# Altium footprint library PDU-UV17.PcbLib: 41 footprints (part 2 of 3)
Each footprint in its own frame and in the unit in brackets; x right, y up, seen from the top. Pads: shape width x height; smd on the part's side, far side on the other; paste and mask are expansions set on the pad; w line width, h text height; cw(c..) or ccw(c..) is an arc to the next point about the centre after c.
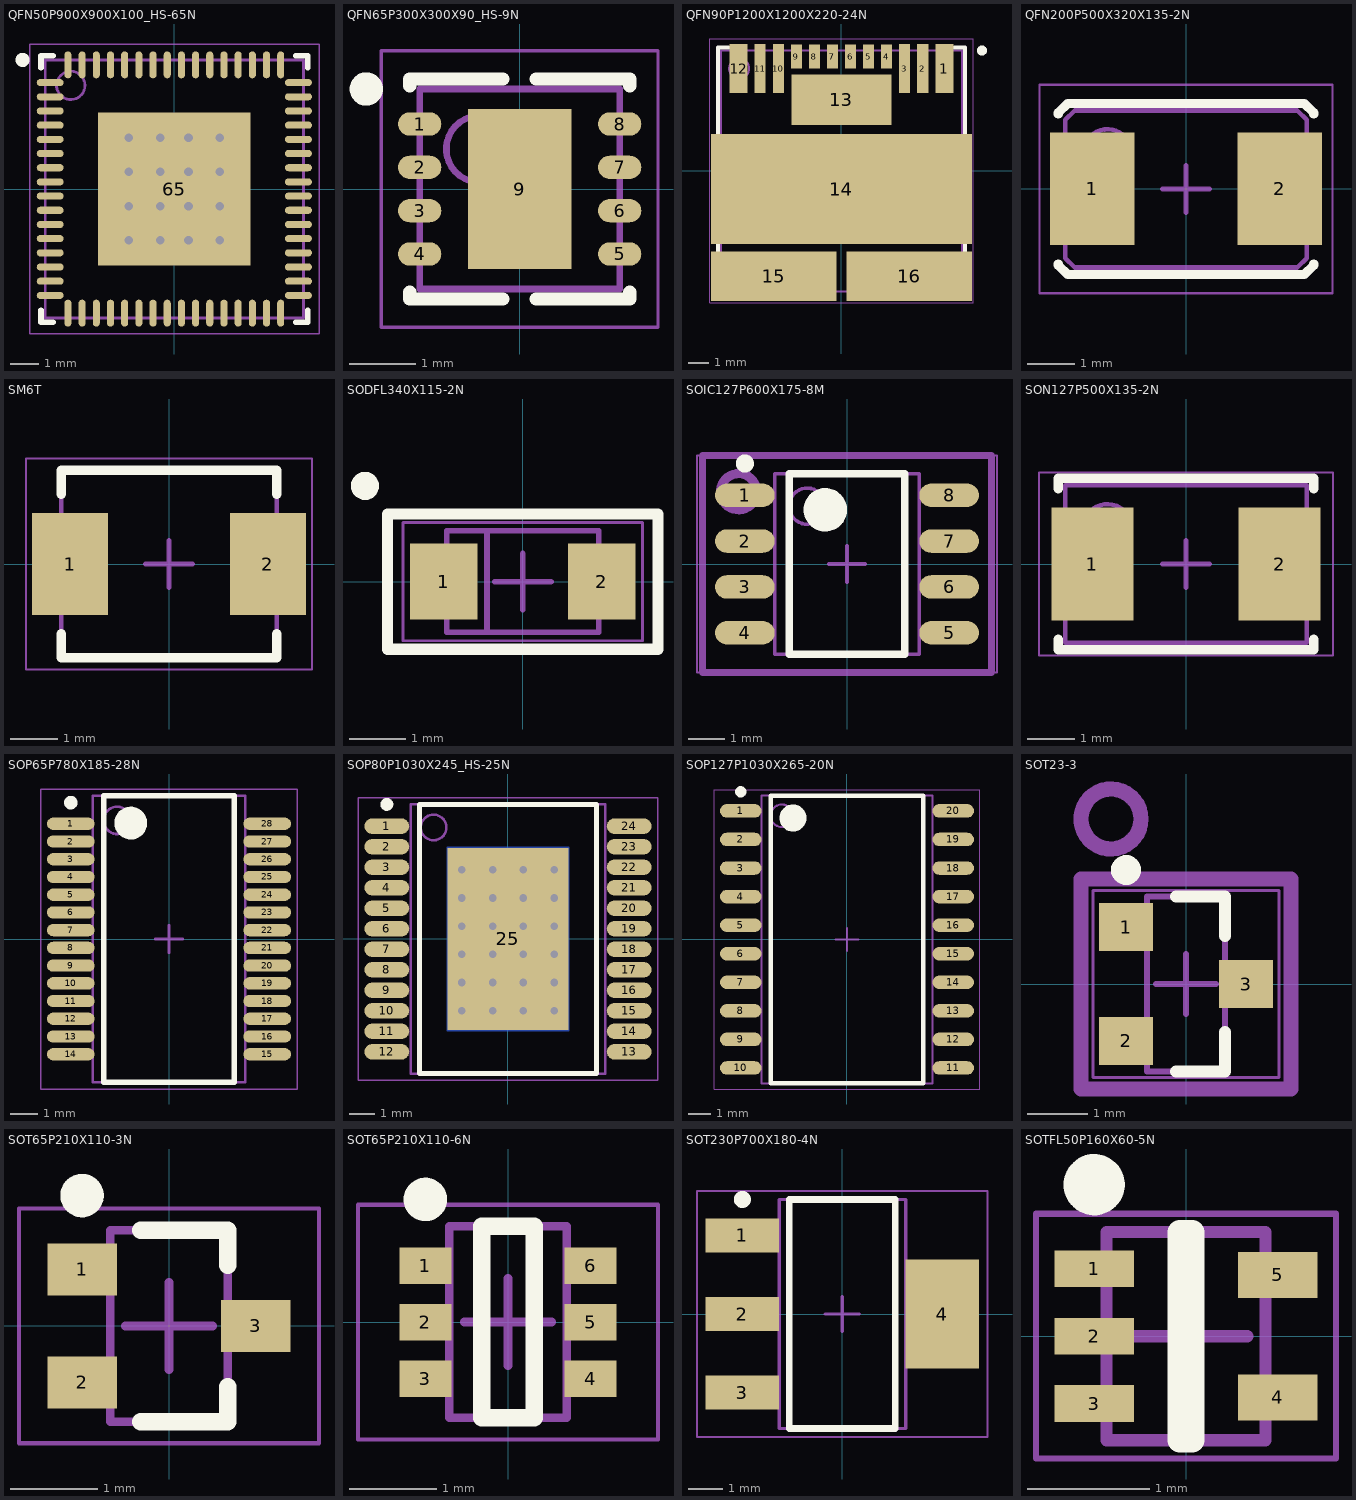
[diagram p1: the footprints below, top view; thin cyan lines are the x and y axes]

## QFN50P900X900X100_HS-65N [mm] "QFN, 64-Leads, Body 9.00x9.00mm, Pitch 0.50mm, Thermal Pad 5.38x5.38mm, IPC Medium Density"
height 1
pads (65):
  oval 0.95x0.25 smd: 1(-4.375,3.75) 2(-4.375,3.25) 3(-4.375,2.75) 4(-4.375,2.25) 5(-4.375,1.75) 6(-4.375,1.25) 7(-4.375,0.75) 8(-4.375,0.25) 9(-4.375,-0.25) 10(-4.375,-0.75) 11(-4.375,-1.25) 12(-4.375,-1.75) 13(-4.375,-2.25) 14(-4.375,-2.75) 15(-4.375,-3.25) 16(-4.375,-3.75) 33(4.375,-3.75) 34(4.375,-3.25) 35(4.375,-2.75) 36(4.375,-2.25) 37(4.375,-1.75) 38(4.375,-1.25) 39(4.375,-0.75) 40(4.375,-0.25) 41(4.375,0.25) 42(4.375,0.75) 43(4.375,1.25) 44(4.375,1.75) 45(4.375,2.25) 46(4.375,2.75) 47(4.375,3.25) 48(4.375,3.75)
  oval 0.25x0.95 smd: 17(-3.75,-4.375) 18(-3.25,-4.375) 19(-2.75,-4.375) 20(-2.25,-4.375) 21(-1.75,-4.375) 22(-1.25,-4.375) 23(-0.75,-4.375) 24(-0.25,-4.375) 25(0.25,-4.375) 26(0.75,-4.375) 27(1.25,-4.375) 28(1.75,-4.375) 29(2.25,-4.375) 30(2.75,-4.375) 31(3.25,-4.375) 32(3.75,-4.375) 49(3.75,4.375) 50(3.25,4.375) 51(2.75,4.375) 52(2.25,4.375) 53(1.75,4.375) 54(1.25,4.375) 55(0.75,4.375) 56(0.25,4.375) 57(-0.25,4.375) 58(-0.75,4.375) 59(-1.25,4.375) 60(-1.75,4.375) 61(-2.25,4.375) 62(-2.75,4.375) 63(-3.25,4.375) 64(-3.75,4.375)
  rect 5.38x5.38 smd: 65(0,0)
via -1.6,1.8 diameter 0.55 hole 0.3
via -0.5,1.8 diameter 0.55 hole 0.3
via 0.5,1.8 diameter 0.55 hole 0.3
via 1.6,1.8 diameter 0.55 hole 0.3
via 1.6,-1.8 diameter 0.55 hole 0.3
via 0.5,-1.8 diameter 0.55 hole 0.3
via -0.5,-1.8 diameter 0.55 hole 0.3
via -1.6,-1.8 diameter 0.55 hole 0.3
via -1.6,-0.6 diameter 0.55 hole 0.3
via -0.5,-0.6 diameter 0.55 hole 0.3
via 0.5,-0.6 diameter 0.55 hole 0.3
via 1.6,-0.6 diameter 0.55 hole 0.3
via 1.6,0.6 diameter 0.55 hole 0.3
via 0.5,0.6 diameter 0.55 hole 0.3
via -0.5,0.6 diameter 0.55 hole 0.3
via -1.6,0.6 diameter 0.55 hole 0.3
Top Overlay:
  circle w0.25: c-5.35,4.55 r0.125
  lines w0.2: -4.7,-4.275 -4.7,-4.7 -4.275,-4.7 ; -4.7,4.275 -4.7,4.7 -4.275,4.7 ; 4.275,-4.7 4.7,-4.7 4.7,-4.275 ; 4.275,4.7 4.7,4.7 4.7,4.275
Mechanical 13:
  circle w0.1: c-3.65,3.65 r0.5
  lines w0.1: -4.55,-4.55 4.55,-4.55 4.55,4.55 -4.55,4.55 -4.55,-4.55
Mechanical 15:
  lines w0.05: -5.1,-5.1 5.1,-5.1 5.1,5.1 -5.1,5.1 -5.1,-5.1
  lines w0.1: -0.5,0 0.5,0 ; 0,-0.5 0,0.5
3D body "QFN50P900X900X100_HS-65N.step": height 1, standoff 0, extent -4.6,-4.6 4.6,4.6

## QFN65P300X300X90_HS-9N [mm] "QFN, 8-Leads, Body 3.00x3.00mm, Pitch 0.65mm, Thermal Pad 1.55x2.40mm, IPC Medium Density"
height 0.9
pads (9):
  oval 0.65x0.35 smd: 1(-1.5,0.975) 2(-1.5,0.325) 3(-1.5,-0.325) 4(-1.5,-0.975) 5(1.5,-0.975) 6(1.5,-0.325) 7(1.5,0.325) 8(1.5,0.975)
  rect 1.55x2.4 smd: 9(0,0)
Top Overlay:
  circle w0.25: c-2.3,1.5 r0.125
  lines w0.2: -1.65,-1.55 -1.65,-1.65 -0.25,-1.65 ; -1.65,1.55 -1.65,1.65 -0.25,1.65 ; 0.25,-1.65 1.65,-1.65 1.65,-1.55 ; 0.25,1.65 1.65,1.65 1.65,1.55
Mechanical 13:
  circle w0.1: c-0.6,0.6 r0.5
  lines w0.1: -1.5,-1.5 -1.5,1.5 1.5,1.5 1.5,-1.5 -1.5,-1.5
Mechanical 15:
  lines w0.05: -2.075,-2.075 -2.075,2.075 2.075,2.075 2.075,-2.075 -2.075,-2.075
  lines w0.1: -0.5,0 0.5,0 ; 0,-0.5 0,0.5
3D body "QFN65P300X300X90_HS-9N.step": height 0.9, standoff 0, extent -1.55,-1.5 1.55,1.5

## QFN90P1200X1200X220-24N [mm] "QFN, 24-Leads, Body 12.00x12.00mm, Pitch 0.90mm/2.55mm, IPC Medium Density"
height 2.2
pads (16):
  rect 0.9x2.45 smd: 1(5.125,5.1) 12(-5.125,5.1)
  rect 0.55x2.45 smd: 2(4.05,5.1) 3(3.15,5.1) 10(-3.15,5.1) 11(-4.05,5.1)
  rect 0.55x1.2 smd: 4(2.25,5.7) 5(1.35,5.7) 6(0.45,5.7) 7(-0.45,5.7) 8(-1.35,5.7) 9(-2.25,5.7)
  rect 5x2.5 smd: 13(0,3.55)
  rect 13x5.5 smd: 14(0,-0.9)
  rect 6.25x2.45 smd: 15(-3.375,-5.25) 16(3.375,-5.25)
Top Overlay:
  circle w0.25: c7,6 r0.125
  lines w0.2: -6.15,-0.6 -6.15,6.15 -5.625,6.15 ; -6.15,0.6 -6.15,-6.15 -5.625,-6.15 ; 5.625,-6.15 6.15,-6.15 6.15,0.6 ; 5.625,6.15 6.15,6.15 6.15,-0.6
Mechanical 13:
  circle w0.1: c-5.1,5.1 r0.5
  lines w0.1: -6,-6 -6,6 6,6 6,-6 -6,-6
Mechanical 15:
  lines w0.05: -6.575,-6.575 -6.575,6.575 6.575,6.575 6.575,-6.575 -6.575,-6.575
  lines w0.1: -0.5,0 0.5,0 ; 0,-0.5 0,0.5
3D body: height 2.2, standoff 0.05, extent -6,-6 6,6

## QFN200P500X320X135-2N [mm] "QFN, 2-Leads, Body 5.00x3.20mm, Pitch 2.00mm, IPC Medium Density"
height 1.35
pads (2):
  rect 1.8x2.4 smd: 1(-2,0) 2(2,0)
Top Overlay:
  lines w0.2: -2.725,-1.6 -2.725,-1.625 -2.525,-1.825 0.6,-1.825 2.525,-1.825 2.725,-1.625 2.725,-1.6 ; -2.725,1.6 -2.725,1.625 -2.525,1.825 -0.6,1.825 2.525,1.825 2.725,1.625 2.725,1.6
Mechanical 13:
  circle w0.1: c-1.675,0.775 r0.5
  lines w0.1: -2.575,-1.475 -2.375,-1.675 2.375,-1.675 2.575,-1.475 2.575,1.475 2.375,1.675 -2.375,1.675 -2.575,1.475 -2.575,-1.475
Mechanical 15:
  lines w0.05: -3.125,-2.225 -3.125,2.225 3.125,2.225 3.125,-2.225 -3.125,-2.225
  lines w0.1: -0.5,0 0.5,0 ; 0,-0.5 0,0.5
3D body: height 1.35, standoff 0.05, extent -2.575,-1.675 2.575,1.675

## SM6T [mm] "Molded Capacitor, 2-Leads, Body 4.32x3.63mm, IPC Medium Density"
height 2.65
pads (2):
  rect 1.62x2.18 smd: 1(-2.11,0) 2(2.11,0)
Top Overlay:
  lines w0.2: -2.3,-1.49 -2.3,-2 2.3,-2 2.3,-1.49 ; -2.3,1.49 -2.3,2 2.3,2 2.3,1.49
Mechanical 13:
  lines w0.1: -2.3,-1.975 2.3,-1.975 2.3,1.975 -2.3,1.975 -2.3,-1.975
Mechanical 15:
  lines w0.05: -3.05,-2.25 3.05,-2.25 3.05,2.25 -3.05,2.25 -3.05,-2.25
  lines w0.1: -0.5,0 0.5,0 ; 0,-0.5 0,0.5
3D body "CAPM4336X26N.step": height 2.65, standoff 0, extent -2.52,-1.975 2.52,1.975

## SODFL340X115-2N [mm] "SODFL, 2-Leads, Body 1.75x3.40mm, IPC Medium Density"
height 1.15
pads (2):
  rect 1.2x1.35 smd: 1(-1.4,0) 2(1.4,0)
Top Overlay:
  circle w0.25: c-2.8,1.7 r0.125
  lines w0.2: -2.4,-1.2 -2.4,1.2 2.4,1.2 2.4,-1.2 -2.4,-1.2
Mechanical 13:
  lines w0.1: -0.635,-0.889 -0.635,0.9 ; -1.35,-0.9 -1.35,0.9 1.35,0.9 1.35,-0.9 -1.35,-0.9
Mechanical 15:
  lines w0.05: -2.125,-1.05 -2.125,1.05 2.125,1.05 2.125,-1.05 -2.125,-1.05
  lines w0.1: -0.5,0 0.5,0 ; 0,-0.5 0,0.5
3D body "SODFL340X115-2N.step": height 1.15, standoff 0, extent -1.7,-0.9 1.7,0.9

## SOIC127P600X175-8M [mm] "SOIC, 8-Leads, Body 4.90x3.90mm, Pitch 1.27mm, IPC Low Density"
height 1.75
pads (8):
  oval 1.65x0.65 smd: 1(-2.825,1.905) 2(-2.825,0.635) 3(-2.825,-0.635) 4(-2.825,-1.905) 5(2.825,-1.905) 6(2.825,-0.635) 7(2.825,0.635) 8(2.825,1.905)
Top Overlay:
  circle w0.25: c-2.825,2.78 r0.125
  circle w0.6: c-0.6,1.5 r0.3
  lines w0.2: -1.6,-2.5 -1.6,2.5 1.6,2.5 1.6,-2.5 -1.6,-2.5
Mechanical 13:
  circle w0.1: c-1.1,1.6 r0.5
  lines w0.1: -2,-2.5 -2,2.5 2,2.5 2,-2.5 -2,-2.5
Mechanical 15:
  lines w0.05: -4.15,-3 -4.15,3 4.15,3 4.15,-3 -4.15,-3
  lines w0.1: -0.5,0 0.5,0 ; 0,-0.5 0,0.5
Mechanical 29:
  circle w0.254: c-3,2 r0.5
  lines w0.2: -4,-3 4,-3 4,3 -4,3 -4,-3
  text ".Designator" at -2.3,-0.9 h1.52
3D body "SOIC127P600X175-8M.step": height 1.75, standoff 0, extent -3,-2.5 3,2.5

## SON127P500X135-2N [mm] "SON, 2-Leads, Body 3.20x5.00mm, Pitch 1.27mm, IPC Medium Density"
height 1.35
pads (2):
  rect 1.75x2.4 smd: 1(-1.995,0) 2(1.995,0)
Top Overlay:
  lines w0.2: -2.725,-1.6 -2.725,-1.825 2.725,-1.825 2.725,-1.6 ; -2.725,1.6 -2.725,1.825 2.725,1.825 2.725,1.6
Mechanical 13:
  circle w0.1: c-1.675,0.775 r0.5
  lines w0.1: -2.575,-1.675 -2.575,1.675 2.575,1.675 2.575,-1.675 -2.575,-1.675
Mechanical 15:
  lines w0.05: -3.13,-1.95 -3.13,1.95 3.13,1.95 3.13,-1.95 -3.13,-1.95
  lines w0.1: -0.5,0 0.5,0 ; 0,-0.5 0,0.5
3D body "SON127P500X135-2N.step": height 1.35, standoff 0.1, extent -2.575,-1.675 2.575,1.675

## SOP65P780X185-28N [mm] "SOP, 28-Leads, Body 10.20x5.30mm, Pitch 0.65mm, IPC Medium Density"
height 1.85
pads (28):
  oval 1.75x0.45 smd: 1(-3.6,4.225) 2(-3.6,3.575) 3(-3.6,2.925) 4(-3.6,2.275) 5(-3.6,1.625) 6(-3.6,0.975) 7(-3.6,0.325) 8(-3.6,-0.325) 9(-3.6,-0.975) 10(-3.6,-1.625) 11(-3.6,-2.275) 12(-3.6,-2.925) 13(-3.6,-3.575) 14(-3.6,-4.225) 15(3.6,-4.225) 16(3.6,-3.575) 17(3.6,-2.925) 18(3.6,-2.275) 19(3.6,-1.625) 20(3.6,-0.975) 21(3.6,-0.325) 22(3.6,0.325) 23(3.6,0.975) 24(3.6,1.625) 25(3.6,2.275) 26(3.6,2.925) 27(3.6,3.575) 28(3.6,4.225)
Top Overlay:
  circle w0.25: c-3.6,5 r0.125
  circle w0.6: c-1.4,4.25 r0.3
  lines w0.2: -2.4,-5.25 -2.4,5.25 2.4,5.25 2.4,-5.25 -2.4,-5.25
Mechanical 13:
  circle w0.1: c-1.9,4.35 r0.5
  lines w0.1: -2.8,-5.25 -2.8,5.25 2.8,5.25 2.8,-5.25 -2.8,-5.25
Mechanical 15:
  lines w0.05: -4.7,-5.5 -4.7,5.5 4.7,5.5 4.7,-5.5 -4.7,-5.5
  lines w0.1: -0.5,0 0.5,0 ; 0,-0.5 0,0.5
3D body "SOP65P780X185-28N.step": height 1.85, standoff 0, extent -3.9,-5.25 3.9,5.25

## SOP80P1030X245_HS-25N [mm] "SOP, 24-Leads, Body 10.30x7.50mm, Pitch 0.80mm, Thermal Pad 7.10x4.70mm, IPC Medium Density"
height 2.45
pads (25):
  oval 1.75x0.6 smd: 1(-4.725,4.4) 2(-4.725,3.6) 3(-4.725,2.8) 4(-4.725,2) 5(-4.725,1.2) 6(-4.725,0.4) 7(-4.725,-0.4) 8(-4.725,-1.2) 9(-4.725,-2) 10(-4.725,-2.8) 11(-4.725,-3.6) 12(-4.725,-4.4) 13(4.725,-4.4) 14(4.725,-3.6) 15(4.725,-2.8) 16(4.725,-2) 17(4.725,-1.2) 18(4.725,-0.4) 19(4.725,0.4) 20(4.725,1.2) 21(4.725,2) 22(4.725,2.8) 23(4.725,3.6) 24(4.725,4.4)
  rect 4.7x7.1 smd: 25(0,0)
via -0.6,-2.8 diameter 0.6 hole 0.3
via 0.6,-2.8 diameter 0.6 hole 0.3
via 1.8,-2.8 diameter 0.6 hole 0.3
via -1.8,-2.8 diameter 0.6 hole 0.3
via -0.6,-1.7 diameter 0.6 hole 0.3
via 0.6,-1.7 diameter 0.6 hole 0.3
via 1.8,-1.7 diameter 0.6 hole 0.3
via -1.8,-1.7 diameter 0.6 hole 0.3
via -0.6,2.7 diameter 0.6 hole 0.3
via 0.6,2.7 diameter 0.6 hole 0.3
via 1.8,2.7 diameter 0.6 hole 0.3
via -1.8,2.7 diameter 0.6 hole 0.3
via -0.6,1.6 diameter 0.6 hole 0.3
via 0.6,1.6 diameter 0.6 hole 0.3
via 1.8,1.6 diameter 0.6 hole 0.3
via -1.8,1.6 diameter 0.6 hole 0.3
via -1.8,0.5 diameter 0.6 hole 0.3
via -1.8,-0.6 diameter 0.6 hole 0.3
via 1.8,-0.6 diameter 0.6 hole 0.3
via 1.8,0.5 diameter 0.6 hole 0.3
via 0.6,0.5 diameter 0.6 hole 0.3
via 0.6,-0.6 diameter 0.6 hole 0.3
via -0.6,-0.6 diameter 0.6 hole 0.3
via -0.6,0.5 diameter 0.6 hole 0.3
Bottom Layer:
  rectangle: -2.4,-3.6 2.4,3.6
Top Overlay:
  circle w0.25: c-4.725,5.25 r0.125
  lines w0.2: -3.45,-5.25 3.45,-5.25 3.45,5.25 -3.45,5.25 -3.45,-5.25
Bottom Solder:
  rectangle: -2.3,-3.5 2.3,3.5
Mechanical 13:
  circle w0.1: c-2.9,4.35 r0.5
  lines w0.1: -3.8,-5.25 3.8,-5.25 3.8,5.25 -3.8,5.25 -3.8,-5.25
Mechanical 15:
  lines w0.05: -5.85,-5.5 5.85,-5.5 5.85,5.5 -5.85,5.5 -5.85,-5.5
  lines w0.1: -0.5,0 0.5,0 ; 0,-0.5 0,0.5
3D body "SOP80P1030X245_HS-25N.step": height 2.45, standoff 0, extent -5.15,-5.25 5.15,5.25

## SOP127P1030X265-20N [mm] "SOP, 20-Leads, Body 12.70x7.50mm, Pitch 1.27mm, IPC Medium Density"
height 2.65
pads (20):
  oval 1.85x0.6 smd: 1(-4.725,5.715) 2(-4.725,4.445) 3(-4.725,3.175) 4(-4.725,1.905) 5(-4.725,0.635) 6(-4.725,-0.635) 7(-4.725,-1.905) 8(-4.725,-3.175) 9(-4.725,-4.445) 10(-4.725,-5.715) 11(4.725,-5.715) 12(4.725,-4.445) 13(4.725,-3.175) 14(4.725,-1.905) 15(4.725,-0.635) 16(4.725,0.635) 17(4.725,1.905) 18(4.725,3.175) 19(4.725,4.445) 20(4.725,5.715)
Top Overlay:
  circle w0.25: c-4.725,6.565 r0.125
  circle w0.6: c-2.4,5.4 r0.3
  lines w0.2: -3.4,-6.4 -3.4,6.4 3.4,6.4 3.4,-6.4 -3.4,-6.4
Mechanical 13:
  circle w0.1: c-2.9,5.5 r0.5
  lines w0.1: -3.8,-6.4 -3.8,6.4 3.8,6.4 3.8,-6.4 -3.8,-6.4
Mechanical 15:
  lines w0.05: -5.9,-6.65 -5.9,6.65 5.9,6.65 5.9,-6.65 -5.9,-6.65
  lines w0.1: -0.5,0 0.5,0 ; 0,-0.5 0,0.5
3D body "SOP127P1030X265-20N.step": height 2.65, standoff 0, extent -5.15,-6.4 5.15,6.4

## SOT23-3 [mm] "SOT23, 3-Leads, Body 2.92x1.3mm, Pitch 0.95mm"
height 1.11
pads (3):
  rect 0.9x0.8 smd: 1(-1,0.95) 2(-1,-0.95) 3(1,0)
Top Overlay:
  circle w0.25: c-1,1.9 r0.125
  lines w0.2: -0.165,-1.46 0.65,-1.46 0.65,-0.8 ; -0.165,1.46 0.65,1.46 0.65,0.8
Mechanical 13:
  lines w0.1: -0.65,-1.46 0.65,-1.46 0.65,1.46 -0.65,1.46 -0.65,-1.46
Mechanical 15:
  lines w0.05: -1.55,-1.56 1.55,-1.56 1.55,1.56 -1.55,1.56 -1.55,-1.56
  lines w0.1: -0.5,0 0.5,0 ; 0,-0.5 0,0.5
Mechanical 29:
  circle w0.254: c-1.25,2.75 r0.5
  lines w0.254: -1.75,-1.75 1.75,-1.75 1.75,1.75 -1.75,1.75 -1.75,-1.75
  text ".Designator" at 0.25,-1 h0.8
3D body: height 1.11, standoff 0.01, extent -0.65,-1.46 0.65,1.46

## SOT65P210X110-3N [mm] "SOT23, 3-Leads, Body 2.00x2.10mm, Pitch 0.65mm, IPC Medium Density"
height 1.1
pads (3):
  rect 0.8x0.6 smd: 1(-1,0.65) 2(-1,-0.65) 3(1,0)
Top Overlay:
  circle w0.25: c-1,1.5 r0.125
  lines w0.2: -0.325,-1.1 0.675,-1.1 0.675,-0.7 ; -0.325,1.1 0.675,1.1 0.675,0.7
Mechanical 13:
  lines w0.1: -0.675,-1.1 -0.675,1.1 0.675,1.1 0.675,-1.1 -0.675,-1.1
Mechanical 15:
  lines w0.05: -1.725,-1.35 -1.725,1.35 1.725,1.35 1.725,-1.35 -1.725,-1.35
  lines w0.1: -0.5,0 0.5,0 ; 0,-0.5 0,0.5
3D body "SOT65P210X110-3N.step": height 1.1, standoff 0, extent -1.15,-1.1 1.15,1.1

## SOT65P210X110-6N [mm] "SOT23, 6-Leads, Body 2.00x2.10mm, Pitch 0.65mm, IPC Medium Density"
height 1.1
pads (6):
  rect 0.6x0.42 smd: 1(-0.95,0.65) 2(-0.95,0) 3(-0.95,-0.65) 4(0.95,-0.65) 5(0.95,0) 6(0.95,0.65)
Top Overlay:
  circle w0.25: c-0.95,1.41 r0.125
  lines w0.2: -0.3,-1.1 0.3,-1.1 0.3,1.1 -0.3,1.1 -0.3,-1.1
Mechanical 13:
  lines w0.1: -0.675,-1.1 -0.675,1.1 0.675,1.1 0.675,-1.1 -0.675,-1.1
Mechanical 15:
  lines w0.05: -1.725,-1.35 -1.725,1.35 1.725,1.35 1.725,-1.35 -1.725,-1.35
  lines w0.1: -0.5,0 0.5,0 ; 0,-0.5 0,0.5
3D body "SOT65P210X110-6N.step": height 1.1, standoff 0, extent -1.1,-1.1 1.1,1.1

## SOT230P700X180-4N [mm] "SOT223, 4-Leads, Body 6.50x7.00mm (avg), Pitch 2.30mm, IPC Medium Density"
height 1.8
pads (4):
  rect 2.15x1 smd: 1(-2.925,2.3) 2(-2.925,0) 3(-2.925,-2.3)
  rect 2.15x3.2 smd: 4(2.925,0)
Top Overlay:
  circle w0.25: c-2.925,3.35 r0.125
  lines w0.2: -1.55,-3.35 -1.55,3.35 1.55,3.35 1.55,-3.35 -1.55,-3.35
Mechanical 13:
  lines w0.1: -1.85,-3.35 -1.85,3.35 1.85,3.35 1.85,-3.35 -1.85,-3.35
Mechanical 15:
  lines w0.05: -4.25,-3.6 -4.25,3.6 4.25,3.6 4.25,-3.6 -4.25,-3.6
  lines w0.1: -0.5,0 0.5,0 ; 0,-0.5 0,0.5
3D body "SOT230P700X180-4N.step": height 1.8, standoff 0, extent -3.5,-3.35 3.5,3.35

## SOTFL50P160X60-5N [mm] "SOTFL, 5-Leads, Body 1.60x1.60mm, Pitch 0.50mm, IPC Medium Density"
height 0.6
pads (5):
  rect 0.65x0.3 smd: 1(-0.75,0.55) 2(-0.75,0) 3(-0.75,-0.55)
  rect 0.65x0.375 smd: 4(0.75,-0.5) 5(0.75,0.5)
Top Overlay:
  circle w0.25: c-0.75,1.237 r0.125
  lines w0.2: -0.05,-0.85 0.05,-0.85 0.05,0.85 -0.05,0.85 -0.05,-0.85
Mechanical 13:
  lines w0.1: -0.65,-0.85 -0.65,0.85 0.65,0.85 0.65,-0.85 -0.65,-0.85
Mechanical 15:
  lines w0.05: -1.225,-1 -1.225,1 1.225,1 1.225,-1 -1.225,-1
  lines w0.1: -0.5,0 0.5,0 ; 0,-0.5 0,0.5
3D body "SOTFL50P160X60-5N.step": height 0.6, standoff 0, extent -0.8,-0.848 0.8,0.848